# EAGLE library part LTC2944 (library LTC2944)
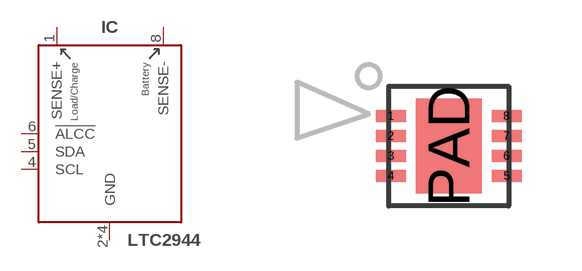
[diagram p0: symbol with the pads of DFN-8-3X3-0.5; footprint DFN-8-3X3-0.5]

Designator prefix IC

## LTC2944CDD (ADDRESS: 0xC8), LTC2944IDD (ADDRESS: 0xC8)  [DFN-8-3X3-0.5]
1  SENSE+  in
2  GND  in
3  GND  in
4  SCL  in
5  SDA
6  !ALCC
7  GND  in
8  SENSE-  in
PAD  GND  in

## Footprint DFN-8-3X3-0.5 (pad centres in mm)
smd 0.75 x 0.3: 1 -1.45,0.75; 2 -1.45,0.25; 3 -1.45,-0.25; 4 -1.45,-0.75; 5 1.45,-0.75; 6 1.45,-0.25; 7 1.45,0.25; 8 1.45,0.75
smd 1.65 x 2.38: PAD 0,0